# Altium footprint library JP.PcbLib: 182 footprints (part 5 of 12)
Each footprint in its own frame and in the unit in brackets; x right, y up, seen from the top. Pads: shape width x height; smd on the part's side, far side on the other; paste and mask are expansions set on the pad; w line width, h text height; cw(c..) or ccw(c..) is an arc to the next point about the centre after c.
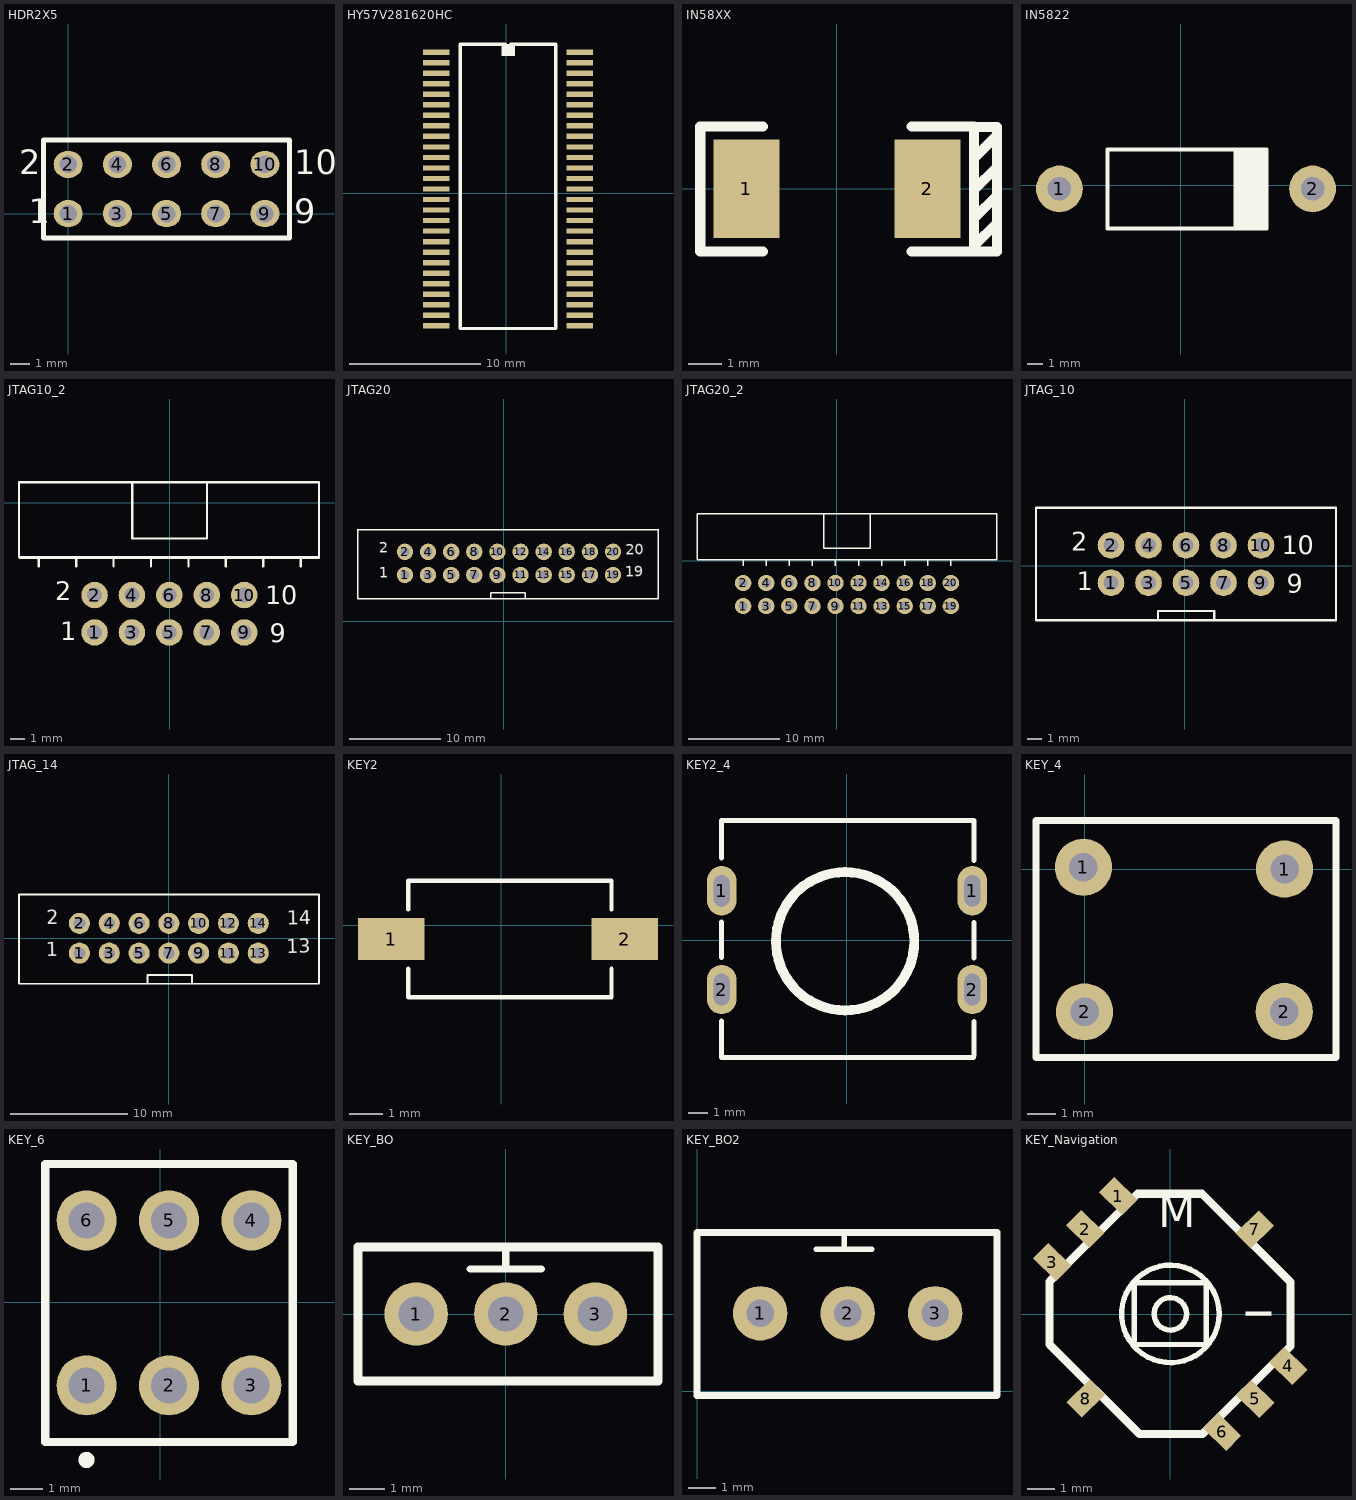
[diagram p4: the footprints below, top view; thin cyan lines are the x and y axes]

## HDR2X5 [mm] "Connector; Header; 5x2 Position"
pads (10):
  oval 1.5x1.4 hole 0.9: 1(0,0) 2(0,2.54) 3(2.54,0) 4(2.54,2.54) 5(5.08,0) 6(5.08,2.54) 7(7.62,0) 8(7.62,2.54) 9(10.16,0) 10(10.16,2.54)
Top Overlay:
  lines w0.254: -1.27,-1.27 -1.27,3.81 11.43,3.81 11.43,-1.27 -1.27,-1.27
  text "2" at -2.54,2.032 h1.27
  text "1" at -2.032,-0.508 h1.27
  text "9" at 11.684,-0.508 h1.27
  text "10" at 11.684,2.032 h1.27

## HY57V281620HC [mm]
pads (54):
  rect 2x0.4 smd: 1(-5.339,10.736) 2(-5.339,9.936) 3(-5.339,9.136) 4(-5.339,8.336) 5(-5.339,7.536) 6(-5.339,6.736) 7(-5.339,5.936) 8(-5.339,5.136) 9(-5.339,4.336) 10(-5.339,3.535) 11(-5.339,2.735) 12(-5.339,1.935) 13(-5.339,1.135) 14(-5.339,0.335) 15(-5.339,-0.465) 16(-5.339,-1.265) 17(-5.339,-2.065) 18(-5.339,-2.865) 19(-5.339,-3.665) 20(-5.339,-4.465) 21(-5.339,-5.265) 22(-5.339,-6.065) 23(-5.339,-6.865) 24(-5.339,-7.665) 25(-5.339,-8.465) 26(-5.339,-9.265) 27(-5.339,-10.065) 28(5.583,-10.065) 29(5.583,-9.265) 30(5.583,-8.465) 31(5.583,-7.665) 32(5.583,-6.865) 33(5.583,-6.065) 34(5.583,-5.265) 35(5.583,-4.465) 36(5.583,-3.665) 37(5.583,-2.865) 38(5.583,-2.065) 39(5.583,-1.265) 40(5.583,-0.465) 41(5.583,0.335) 42(5.583,1.135) 43(5.583,1.935) 44(5.583,2.735) 45(5.583,3.535) 46(5.583,4.336) 47(5.583,5.136) 48(5.583,5.936) 49(5.583,6.736) 50(5.583,7.536) 51(5.583,8.336) 52(5.583,9.136) 53(5.583,9.936) 54(5.583,10.736)
Top Overlay:
  rectangle: -0.361,10.455 0.655,11.358
  lines w0.254: -0.078,11.336 -3.504,11.336 -3.504,-10.265 3.748,-10.265 3.748,11.336 0.322,11.336

## IN58XX [mm]
pads (2):
  rect 2x3 smd: 1(-2.75,0) 2(2.75,0)
Top Overlay:
  lines w0.305: -2.246,-1.905 -4.151,-1.905 -4.151,1.886 -2.246,1.886 ; 2.266,-1.905 4.171,-1.905 ; 2.266,1.886 4.171,1.886 4.171,-1.905 ; 4.171,-1.737 4.866,-1.041 ; 4.171,-0.898 4.866,-0.203 ; 4.171,-0.035 4.866,0.66 ; 4.178,1.88 4.866,1.88 4.866,-1.905 4.171,-1.905 ; 4.206,0.965 4.866,1.626

## IN5822 [mm]
height 5
pads (2):
  round 3 hole 1.5: 1(-7.77,-0.22) 2(8.47,-0.22)
Top Overlay:
  rectangle: 3.41,-2.763 5.629,2.28
  lines w0.254: 5.529,-2.76 -4.68,-2.76 -4.68,2.31 5.529,2.31

## JTAG10_2 [mm]
pads (10):
  round 1.8 hole 1: 1(-5.09,-8.81) 2(-5.09,-6.27) 3(-2.55,-8.81) 4(-2.55,-6.27) 5(-0.01,-8.81) 6(-0.01,-6.27) 7(2.53,-8.81) 8(2.53,-6.27) 9(5.07,-8.81) 10(5.07,-6.27)
Top Overlay:
  lines w0.152: -10.17,-3.73 10.15,-3.73 ; -8.877,-4.329 -8.877,-3.694 ; -6.337,-4.329 -6.337,-3.694 ; -3.797,-4.329 -3.797,-3.694 ; -2.527,1.386 -2.527,-2.424 2.553,-2.424 2.553,1.386 ; -1.257,-4.329 -1.257,-3.694 ; 1.283,-4.329 1.283,-3.694 ; 3.823,-4.329 3.823,-3.694 ; 6.363,-4.329 6.363,-3.694 ; 8.903,-4.329 8.903,-3.694 ; -10.22,-3.694 -10.22,1.386 10.15,1.386 10.15,-3.694 -10.22,-3.694
  text "2" at -7.77,-6.64 h1.27
  text "1" at -7.42,-9.33 h1.27
  text "9" at 6.81,-9.49 h1.27
  text "10" at 6.49,-6.88 h1.27
3D body: height 5, standoff 0, extent -10.219,-3.693 10.149,1.385

## JTAG20 [mm]
pads (20):
  round 1.8 hole 1: 1(-10.877,5.106) 2(-10.877,7.646) 3(-8.337,5.106) 4(-8.337,7.646) 5(-5.797,5.106) 6(-5.797,7.646) 7(-3.257,5.106) 8(-3.257,7.646) 9(-0.717,5.106) 10(-0.717,7.646) 11(1.823,5.106) 12(1.823,7.646) 13(4.363,5.106) 14(4.363,7.646) 15(6.903,5.106) 16(6.903,7.646) 17(9.443,5.106) 18(9.443,7.646) 19(11.983,5.106) 20(11.983,7.646)
Top Overlay:
  lines w0.152: -16.03,10.12 -16.03,2.5 16.92,2.5 16.92,10.12 ; -16.017,10.096 16.9,10.096 ; -1.445,2.5 -1.445,3.135 2.365,3.135 2.365,2.5
  text "20" at 13.36,6.95 h2
  text "19" at 13.34,4.53 h2
  text "2" at -13.68,7.18 h2
  text "1" at -13.71,4.44 h2
3D body: height 5, standoff 0, extent -16.106,2.424 16.996,10.196

## JTAG20_2 [mm]
pads (20):
  round 1.8 hole 1: 1(-10.327,-5.014) 2(-10.327,-2.474) 3(-7.787,-5.014) 4(-7.787,-2.474) 5(-5.247,-5.014) 6(-5.247,-2.474) 7(-2.707,-5.014) 8(-2.707,-2.474) 9(-0.167,-5.014) 10(-0.167,-2.474) 11(2.373,-5.014) 12(2.373,-2.474) 13(4.913,-5.014) 14(4.913,-2.474) 15(7.453,-5.014) 16(7.453,-2.474) 17(9.993,-5.014) 18(9.993,-2.474) 19(12.533,-5.014) 20(12.533,-2.474)
Top Overlay:
  lines w0.152: -10.327,-0.569 -10.327,0.066 ; -7.787,-0.569 -7.787,0.066 ; -5.247,-0.569 -5.247,0.066 ; -2.707,-0.569 -2.707,0.066 ; -1.437,5.146 -1.437,1.336 3.643,1.336 3.643,5.146 ; -0.167,-0.569 -0.167,0.066 ; 2.373,-0.569 2.373,0.066 ; 4.913,-0.569 4.913,0.066 ; 7.453,-0.569 7.453,0.066 ; 9.993,-0.569 9.993,0.066 ; 12.533,-0.569 12.533,0.066 ; -15.407,0.066 17.613,0.066 17.613,5.146 -15.407,5.146 -15.407,0.066
3D body: height 5, standoff 0, extent -15.483,-0.645 17.689,5.222

## JTAG_10 [mm]
pads (10):
  round 1.8 hole 1: 1(-4.99,-1.16) 2(-4.99,1.38) 3(-2.45,-1.16) 4(-2.45,1.38) 5(0.09,-1.16) 6(0.09,1.38) 7(2.63,-1.16) 8(2.63,1.38) 9(5.17,-1.16) 10(5.17,1.38)
Top Overlay:
  lines w0.152: -1.815,-3.7 -1.815,-3.065 1.995,-3.065 1.995,-3.7 ; -10.07,-3.7 -10.07,3.92 10.25,3.92 10.25,-3.7 -10.07,-3.7
  text "2" at -7.67,1.01 h1.27
  text "1" at -7.32,-1.68 h1.27
  text "9" at 6.91,-1.84 h1.27
  text "10" at 6.59,0.77 h1.27
3D body: height 5, standoff 0, extent -10.069,-3.699 10.249,3.919

## JTAG_14 [mm]
pads (14):
  round 1.8 hole 1: 1(-7.62,-1.27) 2(-7.62,1.27) 3(-5.08,-1.27) 4(-5.08,1.27) 5(-2.54,-1.27) 6(-2.54,1.27) 7(0,-1.27) 8(0,1.27) 9(2.54,-1.27) 10(2.54,1.27) 11(5.08,-1.27) 12(5.08,1.27) 13(7.62,-1.27) 14(7.62,1.27)
Top Overlay:
  lines w0.152: -12.773,3.744 -12.773,-3.876 12.797,-3.876 12.797,3.72 -12.76,3.72 ; -1.828,-3.766 -1.828,-3.131 1.982,-3.131 1.982,-3.766
  text "14" at 10.087,0.754 h2
  text "13" at 10.067,-1.666 h2
  text "2" at -10.423,0.804 h2
  text "1" at -10.453,-1.936 h2
3D body: height 5, standoff 0, extent -12.849,-3.952 12.873,3.82

## KEY2 [mm]
pads (2):
  rect 2x1.254 smd: 1(-3.291,-0.41) 2(3.709,-0.41)
Top Overlay:
  lines w0.127: -2.783,-1.301 -2.783,-2.16 3.313,-2.16 3.313,-1.301 ; -2.783,0.477 -2.783,1.34 3.313,1.34 3.313,0.477
3D body: height 1, standoff 0, extent -2.846,-2.223 3.377,1.404

## KEY2_4 [mm]
height 5
pads (4):
  oval 1.5x2.5 hole 0.8 slot 1.6 at 90 deg: 1(-6.345,2.5) 1(6.345,2.5) 2(-6.345,-2.5) 2(6.345,-2.5)
Top Overlay:
  circle w0.5: c-0.095,-0.056 r3.5
  lines w0.25: -6.355,-5.942 6.395,-5.942 ; -6.355,-5.94 -6.355,-4.09 ; -6.355,-0.89 -6.355,0.92 ; -6.355,4.15 -6.355,5.96 ; -6.355,6.058 6.38,6.058 ; 6.425,-5.83 6.425,-4.12 ; 6.425,-0.91 6.425,0.9 ; 6.425,4.03 6.425,6.058
3D body: height 7, standoff 3, extent -3.605,-3.566 3.415,3.454
3D body: height 3, standoff 0, extent -6.605,-6.192 6.675,6.308

## KEY_4 [mm]
pads (4):
  round 2 hole 1: 1(-0.04,0.06) 1(7,0) 2(0,-5) 2(6.99,-4.99)
Top Overlay:
  lines w0.25: 8.8,1.7 -1.7,1.7 -1.7,-6.6 8.8,-6.6 8.8,1.7 ; 8.8,1.7 8.8,1.5 8.8,1.7
3D body: height 3, standoff 0, extent -1.825,-6.725 8.925,1.825

## KEY_6 [mm]
pads (6):
  round 1.85 hole 1.1: 1(-2.273,-2.556) 2(0.267,-2.556) 3(2.807,-2.556) 4(2.807,2.524) 5(0.267,2.524) 6(-2.273,2.524)
Top Overlay:
  circle w0.25: c-2.274,-4.852 r0.125
  lines w0.254: -3.543,-4.296 4.077,-4.296 4.077,4.264 -3.543,4.264 -3.543,-4.296
3D body: height 5, standoff 0, extent -3.542,-4.295 4.076,4.263

## KEY_BO [mm] "one of two"
pads (3):
  round 1.8 hole 1: 1(-2.54,0) 2(0,0) 3(2.54,0)
Top Overlay:
  lines w0.2: -1.016,1.27 1.016,1.27 ; 0,1.27 0,1.778
  lines w0.254: -4.191,-1.905 4.309,-1.905 ; -4.191,-1.895 -4.191,1.905 4.309,1.905 ; 4.318,-1.895 4.318,1.905

## KEY_BO2 [mm] "one of two"
pads (3):
  round 2 hole 1: 1(2.322,2.862) 2(5.535,2.862) 3(8.748,2.862)
Top Overlay:
  lines w0.2: 4.384,5.212 6.416,5.212 ; 5.4,5.212 5.4,5.72
  lines w0.254: 0,-0.168 0,5.832 11,5.832 ; 0.016,-0.162 11.016,-0.162 11.016,5.838

## KEY_Navigation [mm]
pads (8):
  rect 0.8x1.2 smd rot 45: 1(-1.92,4.359) 2(-3.14,3.14) 3(-4.359,1.92) 4(4.359,-1.92) 5(3.14,-3.14) 6(1.92,-4.359)
  rect 0.8x1.2 smd rot 135: 7(3.122,3.122) 8(-3.122,-3.122)
Top Overlay:
  circle w0.2: c0.004,0.004 r1.8
  circle w0.2: c0.004,0.004 r0.6
  lines w0.2: -1.337,-1.125 -1.337,1.161 1.33,1.161 1.33,-1.125 -1.337,-1.125
  lines w0.3: -4.458,-1.121 -4.458,1.199 -1.213,4.444 1.177,4.444 4.437,1.184 4.437,-1.191 1.191,-4.437 -1.142,-4.437 -4.458,-1.121
  text "I" at 4.124,-0.236 h2
  text "M" at -0.448,2.812 h2